# Altium schematic symbol library GRM21BR71C475KE51L.SchLib: 1 symbol
Pins are listed as number, name and electrical type; pins without a type are passive.

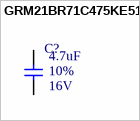
[diagram p0: symbol GRM21BR71C475KE51L]

## GRM21BR71C475KE51L
designator C?  Rated Voltage: 16V  Tolerance: 10%  Capacitence: 4.7uF  (hidden comment: GRM21BR71C475KE51L)
CAP CER 4.7UF 16V X7R 0805; MFR: Murata Electronics; PN: GRM21BR71C475KE51L; ComponentLink1Description: Datasheet; ComponentLink1URL: www.google.com; Temperature Coefficient: X7R; Package: 0805; Footprint: C0805; Supplier 1: Digi-Key; Supplier Part Number 1: 490-14466-1-ND
footprint C0805 (A generic C0805 footprint)
pins: 1, 2